# EAGLE library part 4051 (library 4051)
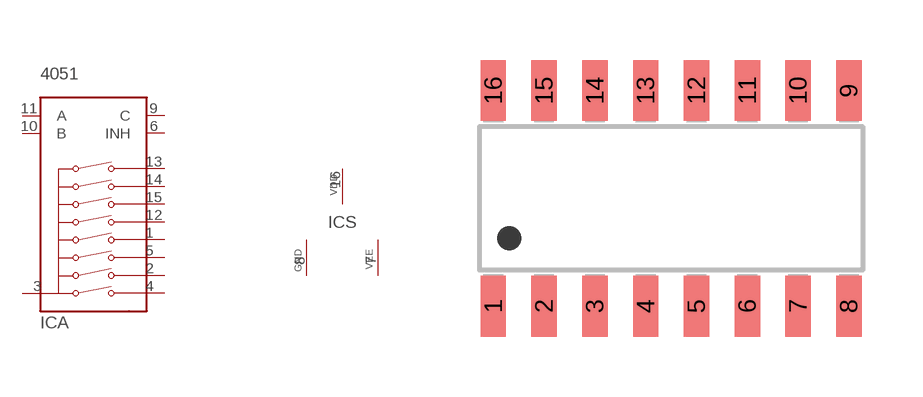
[diagram p0: symbol with the pads of SOIC16; footprint SOIC16]

Designator prefix IC; gates A=MUXER8X S=SUPPLY

## 4051 (MFG: Texas Instruments; MPN: CD4051BM)  [SOIC16]
1  A:4
2  A:6
3  A:COM
4  A:7
5  A:5
6  A:INH  in
7  S:VEE  pwr
8  S:GND  pwr
9  A:C  in
10  A:B  in
11  A:A  in
12  A:3
13  A:0
14  A:1
15  A:2
16  S:VDD  pwr

## Footprint SOIC16 (pad centres in mm)
SMALL OUTLINE INTEGRATED CIRCUIT 16-Pin (150-Mil) SOIC Source: http://www.cypress.com .. 38-12025_0P_V.pdf
smd 0.635 x 1.524: 1 -4.445,-2.695; 2 -3.175,-2.695; 3 -1.905,-2.695; 4 -0.635,-2.695; 5 0.635,-2.695; 6 1.905,-2.695; 7 3.175,-2.695; 8 4.445,-2.695; 9 4.445,2.695; 10 3.175,2.695; 11 1.905,2.695; 12 0.635,2.695; 13 -0.635,2.695; 14 -1.905,2.695; 15 -3.175,2.695; 16 -4.445,2.695